# EAGLE library part USB2513BI-AEZG-TR (library Air_Link)
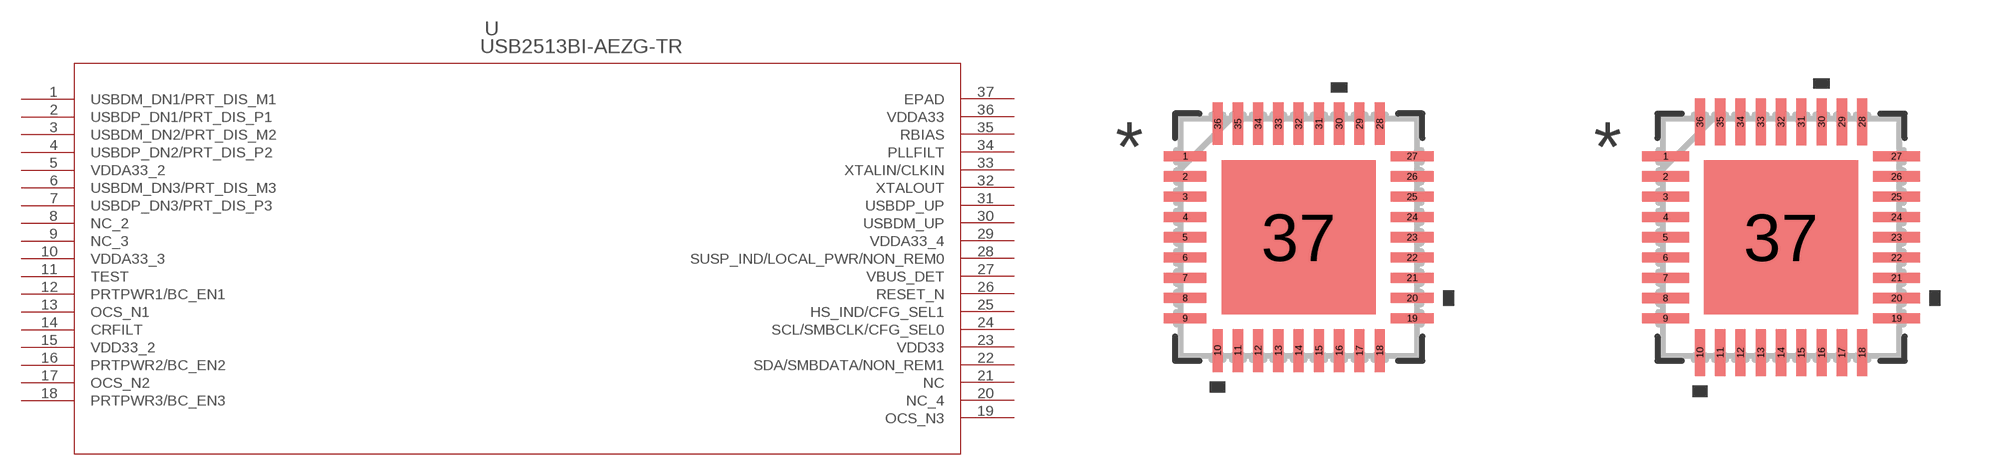
[diagram p6: symbol with the pads of QFN36_6X6MC_MCH; footprints QFN36_6X6MC_MCH, QFN36_6X6MC_MCH-M]

Designator prefix U

## USB2513BI-AEZG-TR (COPYRIGHT: Copyright (C) 2025 Ultra Librarian. All rights reserved.; MANUFACTURER_PART_NUMBER: USB2513BI-AEZG-TR; MFR_NAME: Microchip)  [QFN36_6X6MC_MCH]
1  USBDM_DN1/PRT_DIS_M1
2  USBDP_DN1/PRT_DIS_P1
3  USBDM_DN2/PRT_DIS_M2
4  USBDP_DN2/PRT_DIS_P2
5  VDDA33_2  pwr
6  USBDM_DN3/PRT_DIS_M3
7  USBDP_DN3/PRT_DIS_P3
8  NC_2  nc
9  NC_3  nc
10  VDDA33_3  pwr
11  TEST
12  PRTPWR1/BC_EN1
13  OCS_N1
14  CRFILT
15  VDD33_2  pwr
16  PRTPWR2/BC_EN2
17  OCS_N2
18  PRTPWR3/BC_EN3
19  OCS_N3
20  NC_4  nc
21  NC  nc
22  SDA/SMBDATA/NON_REM1
23  VDD33  pwr
24  SCL/SMBCLK/CFG_SEL0
25  HS_IND/CFG_SEL1
26  RESET_N
27  VBUS_DET
28  SUSP_IND/LOCAL_PWR/NON_REM0
29  VDDA33_4  pwr
30  USBDM_UP
31  USBDP_UP
32  XTALOUT  out
33  XTALIN/CLKIN  in
34  PLLFILT
35  RBIAS
36  VDDA33  pwr
37  EPAD  pas

## USB2513BI-AEZG-TRQFN36_6X6MC_MCH-M (COPYRIGHT: Copyright (C) 2025 Ultra Librarian. All rights reserved.; MANUFACTURER_PART_NUMBER: USB2513BI-AEZG-TR; MFR_NAME: Microchip)  [QFN36_6X6MC_MCH-M]
Pads as for QFN36_6X6MC_MCH

## USB2513BI-AEZG-TRQFN36_6X6MC_MCH-L (COPYRIGHT: Copyright (C) 2025 Ultra Librarian. All rights reserved.; MANUFACTURER_PART_NUMBER: USB2513BI-AEZG-TR; MFR_NAME: Microchip)  [QFN36_6X6MC_MCH-L]
Pads as for QFN36_6X6MC_MCH

## Footprint QFN36_6X6MC_MCH (pad centres in mm)
smd 1.067 x 0.254: 1 -2.845,2.032; 2 -2.845,1.524; 3 -2.845,1.016; 4 -2.845,0.508; 5 -2.845,0; 6 -2.845,-0.508; 7 -2.845,-1.016; 8 -2.845,-1.524; 9 -2.845,-2.032; 19 2.845,-2.032; 20 2.845,-1.524; 21 2.845,-1.016; 22 2.845,-0.508; 23 2.845,0; 24 2.845,0.508; 25 2.845,1.016; 26 2.845,1.524; 27 2.845,2.032
smd 0.254 x 1.067: 10 -2.032,-2.845; 11 -1.524,-2.845; 12 -1.016,-2.845; 13 -0.508,-2.845; 14 0,-2.845; 15 0.508,-2.845; 16 1.016,-2.845; 17 1.524,-2.845; 18 2.032,-2.845; 28 2.032,2.845; 29 1.524,2.845; 30 1.016,2.845; 31 0.508,2.845; 32 0,2.845; 33 -0.508,2.845; 34 -1.016,2.845; 35 -1.524,2.845; 36 -2.032,2.845
smd 3.861 x 3.861: 37 0,0

## Footprint QFN36_6X6MC_MCH-M (pad centres in mm)
smd 1.168 x 0.254: 1 -2.896,2.032; 2 -2.896,1.524; 3 -2.896,1.016; 4 -2.896,0.508; 5 -2.896,0; 6 -2.896,-0.508; 7 -2.896,-1.016; 8 -2.896,-1.524; 9 -2.896,-2.032; 19 2.896,-2.032; 20 2.896,-1.524; 21 2.896,-1.016; 22 2.896,-0.508; 23 2.896,0; 24 2.896,0.508; 25 2.896,1.016; 26 2.896,1.524; 27 2.896,2.032
smd 0.254 x 1.168: 10 -2.032,-2.896; 11 -1.524,-2.896; 12 -1.016,-2.896; 13 -0.508,-2.896; 14 0,-2.896; 15 0.508,-2.896; 16 1.016,-2.896; 17 1.524,-2.896; 18 2.032,-2.896; 28 2.032,2.896; 29 1.524,2.896; 30 1.016,2.896; 31 0.508,2.896; 32 0,2.896; 33 -0.508,2.896; 34 -1.016,2.896; 35 -1.524,2.896; 36 -2.032,2.896
smd 3.861 x 3.861: 37 0,0

## Footprint QFN36_6X6MC_MCH-L (pad centres in mm)
smd 0.965 x 0.254: 1 -2.794,2.032; 2 -2.794,1.524; 3 -2.794,1.016; 4 -2.794,0.508; 5 -2.794,0; 6 -2.794,-0.508; 7 -2.794,-1.016; 8 -2.794,-1.524; 9 -2.794,-2.032; 19 2.794,-2.032; 20 2.794,-1.524; 21 2.794,-1.016; 22 2.794,-0.508; 23 2.794,0; 24 2.794,0.508; 25 2.794,1.016; 26 2.794,1.524; 27 2.794,2.032
smd 0.254 x 0.965: 10 -2.032,-2.794; 11 -1.524,-2.794; 12 -1.016,-2.794; 13 -0.508,-2.794; 14 0,-2.794; 15 0.508,-2.794; 16 1.016,-2.794; 17 1.524,-2.794; 18 2.032,-2.794; 28 2.032,2.794; 29 1.524,2.794; 30 1.016,2.794; 31 0.508,2.794; 32 0,2.794; 33 -0.508,2.794; 34 -1.016,2.794; 35 -1.524,2.794; 36 -2.032,2.794
smd 3.861 x 3.861: 37 0,0